# EAGLE library part SLG46127V (library GREENPAK)
GreenPAK3 SLG46127V Silego Technology www.silego.com
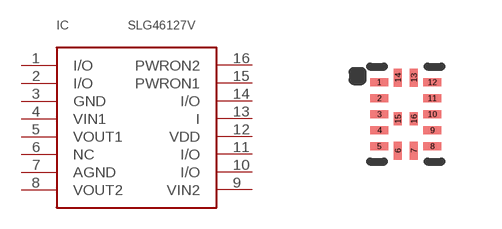
[diagram p30: symbol with the pads of STQFN-16L-1.6X2.0_N; footprint STQFN-16L-1.6X2.0_N]

Designator prefix IC

## SLG46127V  [STQFN-16L-1.6X2.0_N]
1  I/O
2  I/O
3  GND
4  VIN1  pwr
5  VOUT1  pwr
6  NC  nc
7  AGND  pwr
8  VOUT2  pwr
9  VIN2  pwr
10  I/O
11  I/O
12  VDD  pwr
13  I  in
14  I/O
15  PWRON1
16  PWRON2

## Footprint STQFN-16L-1.6X2.0_N (pad centres in mm)
smd 0.45 x 0.2: 1 -0.664,0.802; 2 -0.664,0.402; 3 -0.664,0.002; 4 -0.664,-0.398; 5 -0.664,-0.798; 8 0.661,-0.798; 9 0.661,-0.398; 10 0.661,0.002; 11 0.661,0.402; 12 0.661,0.802
smd 0.2 x 0.45: 6 -0.199,-0.913; 7 0.201,-0.913; 13 0.201,0.912; 14 -0.199,0.912
smd 0.2 x 0.325: 15 -0.199,-0.118; 16 0.201,-0.118